# Altium schematic symbol library DF51KB-4DP-2DS(800).Schlib: 1 symbol
Pins are listed as number, name and electrical type; pins without a type are passive.

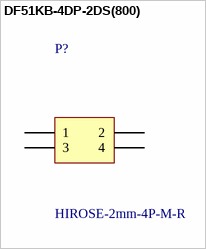
[diagram p0: symbol DF51KB-4DP-2DS(800)]

## DF51KB-4DP-2DS(800)
designator P?, comment HIROSE-2mm-4P-M-R
Hirose 4 Pin, Right Angle Pin Header
pins: 1, 2, 3, 4